# EAGLE library part STM32F302K8U6 (library spectrometer)
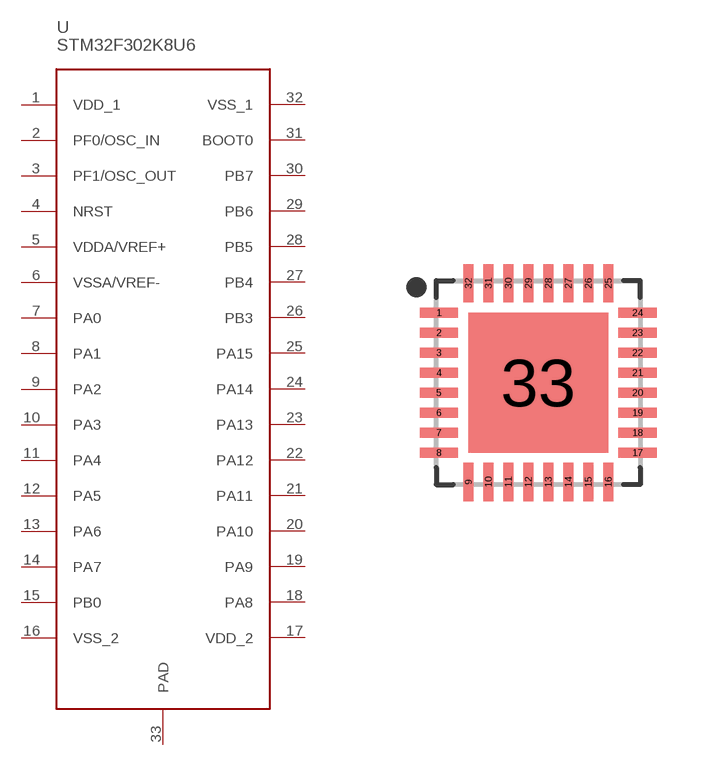
[diagram p1: symbol with the pads of QFN50P500X500X60-33T350; footprint QFN50P500X500X60-33T350]

Designator prefix U

## STM32F302K8U6UFQFPN32  [QFN50P500X500X60-33T350]
1  VDD_1
2  PF0/OSC_IN
3  PF1/OSC_OUT
4  NRST
5  VDDA/VREF+
6  VSSA/VREF-
7  PA0
8  PA1
9  PA2
10  PA3
11  PA4
12  PA5
13  PA6
14  PA7
15  PB0
16  VSS_2
17  VDD_2
18  PA8
19  PA9
20  PA10
21  PA11
22  PA12
23  PA13
24  PA14
25  PA15
26  PB3
27  PB4
28  PB5
29  PB6
30  PB7
31  BOOT0
32  VSS_1
33  PAD

## Footprint QFN50P500X500X60-33T350 (pad centres in mm)
32-QFN, 0.50 mm pitch, 5.00 X 5.00 X 0.60 mm body, 3.50 X 3.50 mm thermal pad 32-pin QFN package with 0.50 mm pitch with body size 5.00 X 5.00 X 0.60 mm and thermal pad size 3.50 X 3.50 mm
smd 0.96 x 0.25: 1 -2.485,1.75; 2 -2.485,1.25; 3 -2.485,0.75; 4 -2.485,0.25; 5 -2.485,-0.25; 6 -2.485,-0.75; 7 -2.485,-1.25; 8 -2.485,-1.75; 17 2.485,-1.75; 18 2.485,-1.25; 19 2.485,-0.75; 20 2.485,-0.25; 21 2.485,0.25; 22 2.485,0.75; 23 2.485,1.25; 24 2.485,1.75
smd 0.25 x 0.96: 9 -1.75,-2.485; 10 -1.25,-2.485; 11 -0.75,-2.485; 12 -0.25,-2.485; 13 0.25,-2.485; 14 0.75,-2.485; 15 1.25,-2.485; 16 1.75,-2.485; 25 1.75,2.485; 26 1.25,2.485; 27 0.75,2.485; 28 0.25,2.485; 29 -0.25,2.485; 30 -0.75,2.485; 31 -1.25,2.485; 32 -1.75,2.485
smd 3.5 x 3.5: 33 0,0